# Altium footprint library CAPAE165170X170M.PcbLib: 1 footprints
Each footprint in its own frame and in the unit in brackets; x right, y up, seen from the top. Pads: shape width x height; smd on the part's side, far side on the other; paste and mask are expansions set on the pad; w line width, h text height; cw(c..) or ccw(c..) is an arc to the next point about the centre after c.
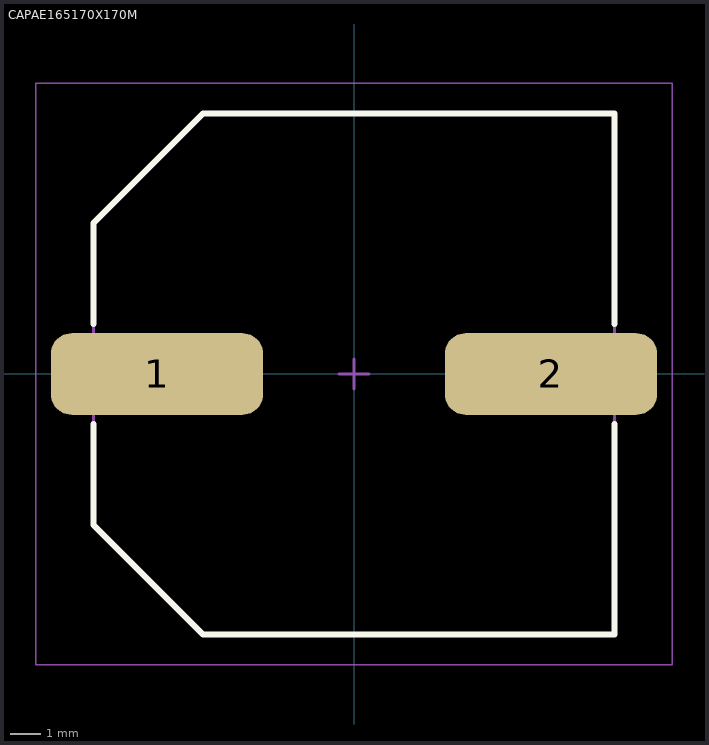
[diagram p0: the footprint, top view; thin cyan lines are the x and y axes]

## CAPAE165170X170M [mm] "Aluminum Electrolytic Capacitor, Body 17.00x17.00x17.00mm, IPC Low Density"
height 17
pads (2):
  rrect50% 7x2.7 smd: 1(-6.5,0) 2(6.5,0)
Top Overlay:
  lines w0.2: -8.6,-1.65 -8.6,-4.975 -4.975,-8.6 8.6,-8.6 8.6,-1.65 ; -8.6,1.65 -8.6,4.975 -4.975,8.6 8.6,8.6 8.6,1.65
Top Assembly:
  lines w0.1: -8.6,-4.975 -4.975,-8.6 8.6,-8.6 8.6,8.6 -4.975,8.6 -8.6,4.975 -8.6,-4.975
Top Courtyard:
  lines w0.05: -10.5,-9.6 -10.5,9.6 10.5,9.6 10.5,-9.6 -10.5,-9.6
  lines w0.1: -0.5,0 0.5,0 ; 0,-0.5 0,0.5
3D body "CAPAE165170X170M.step": height 17, standoff 0, extent -8.6,-8.6 8.6,8.6